# Altium schematic symbol library Capacitors.SchLib: 8 symbols
Pins are listed as number, name and electrical type; pins without a type are passive.

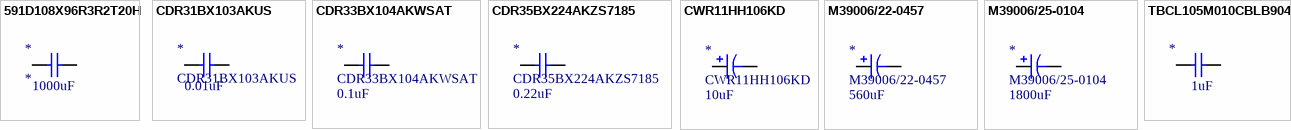
[diagram p0: symbols 591D108X96R3R2T20H to TBCL105M010CBLB9045]

## 591D108X96R3R2T20H
designator *
1000uF; Parameter 1: 1000uF
pins: 1, 2

## CDR31BX103AKUS
designator *  value 0.01uF
0.01uF
footprint CDR31BX10 (Footprint not found)
pins: 1, 2

## CDR33BX104AKWSAT
designator *  value 0.1uF
0.1uF
footprint *CAPC3225X125N
pins: 1, 2

## CDR35BX224AKZS7185
designator *  value 0.22uF
0.22uF
footprint *CAPC4663X340N
pins: 1, 2

## CWR11HH106KD
designator *  value 10uF
10uF
footprint *CAPCP6032X280N
pins: 1, 2

## M39006/22-0457
designator *  value 560uF
560uF
footprint M39006/22-0457
pins: 1, 2

## M39006/25-0104
designator *  value 1800uF
1800uF
footprint M39006/25-0104
pins: 1, 2

## TBCL105M010CBLB9045
designator *, comment TBCL105M010CBLB9045, AVX, custom part, 20% tolerancem solder plated  (value not drawn)
1uF; Parameter 1: 1uF
pins: 1, 2